# EAGLE library part RPI3-B (library RPI_HEADER_snapEDA)
Raspberry Pi Zero WH (Zero W with Headers)
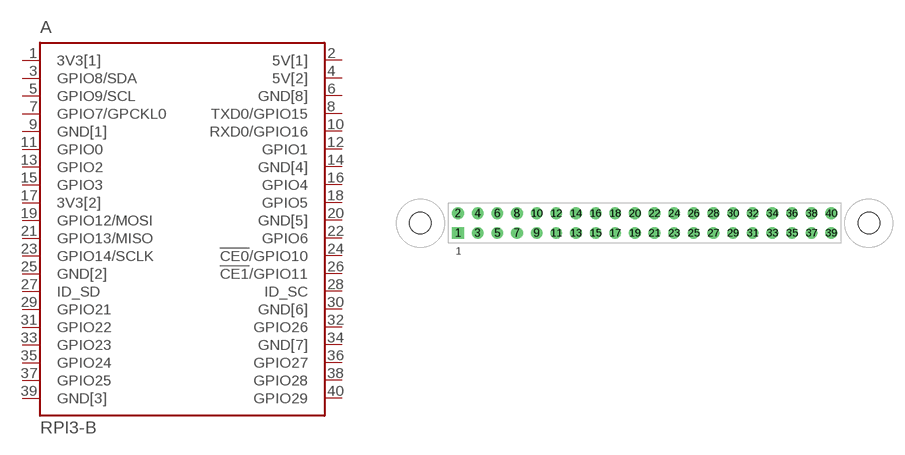
[diagram p0: symbol with the pads of RPI3-B; footprint RPI3-B]

Designator prefix A

## RPI3-B (AVAILABILITY: Unavailable; DESCRIPTION: Raspberry Pi Zero WH _Zero W with Headers_; MF: Raspberry Pi; MP: ADA3708; PACKAGE: None; PRICE: None)  [RPI3-B]
1  3V3[1]  pwr
2  5V[1]  pwr
3  GPIO8/SDA
4  5V[2]  pwr
5  GPIO9/SCL
6  GND[8]  pwr
7  GPIO7/GPCKL0
8  TXD0/GPIO15
9  GND[1]  pwr
10  RXD0/GPIO16
11  GPIO0
12  GPIO1
13  GPIO2
14  GND[4]  pwr
15  GPIO3
16  GPIO4
17  3V3[2]  pwr
18  GPIO5
19  GPIO12/MOSI
20  GND[5]  pwr
21  GPIO13/MISO
22  GPIO6
23  GPIO14/SCLK
24  !CE0!/GPIO10
25  GND[2]  pwr
26  !CE1!/GPIO11
27  ID_SD
28  ID_SC
29  GPIO21
30  GND[6]  pwr
31  GPIO22
32  GPIO26
33  GPIO23
34  GND[7]  pwr
35  GPIO24
36  GPIO27
37  GPIO25
38  GPIO28
39  GND[3]  pwr
40  GPIO29

## Footprint RPI3-B (pad centres in mm)
Raspberry Pi board model B+, full outline with position of big connectors & drill holes
drill 1 square: 1 -24.13,-1.27
drill 1: 2 -24.13,1.27; 3 -21.59,-1.27; 4 -21.59,1.27; 5 -19.05,-1.27; 6 -19.05,1.27; 7 -16.51,-1.27; 8 -16.51,1.27; 9 -13.97,-1.27; 10 -13.97,1.27; 11 -11.43,-1.27; 12 -11.43,1.27; 13 -8.89,-1.27; 14 -8.89,1.27; 15 -6.35,-1.27; 16 -6.35,1.27; 17 -3.81,-1.27; 18 -3.81,1.27; 19 -1.27,-1.27; 20 -1.27,1.27; 21 1.27,-1.27; 22 1.27,1.27; 23 3.81,-1.27; 24 3.81,1.27; 25 6.35,-1.27; 26 6.35,1.27; 27 8.89,-1.27; 28 8.89,1.27; 29 11.43,-1.27; 30 11.43,1.27; 31 13.97,-1.27; 32 13.97,1.27; 33 16.51,-1.27; 34 16.51,1.27; 35 19.05,-1.27; 36 19.05,1.27; 37 21.59,-1.27; 38 21.59,1.27; 39 24.13,-1.27; 40 24.13,1.27
hole 2.75 at -29,0
hole 2.75 at 29,0